# EAGLE library part DPDT-TIDUR (library FansElectronics-Switch)
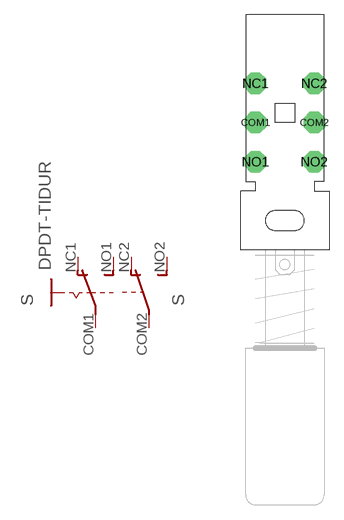
[diagram p1: symbol with the pads of DPDT-TIDUR; footprint DPDT-TIDUR]

Designator prefix S; gates G$1=SIS- G$2=U-2

## DPDT-TIDUR  [DPDT-TIDUR]
COM1  G$1:P  pas
COM2  G$2:P  pas
NC1  G$1:O  pas
NC2  G$2:O  pas
NO1  G$1:S  pas
NO2  G$2:S  pas

## Footprint DPDT-TIDUR (pad centres in mm)
drill 1.1 pad 2.184 octagon: COM1 -3,0; COM2 3,0; NC1 -3,4; NC2 3,4; NO1 -3,-4; NO2 3,-4